# EAGLE library part XR-16C450P (library exar)
UART
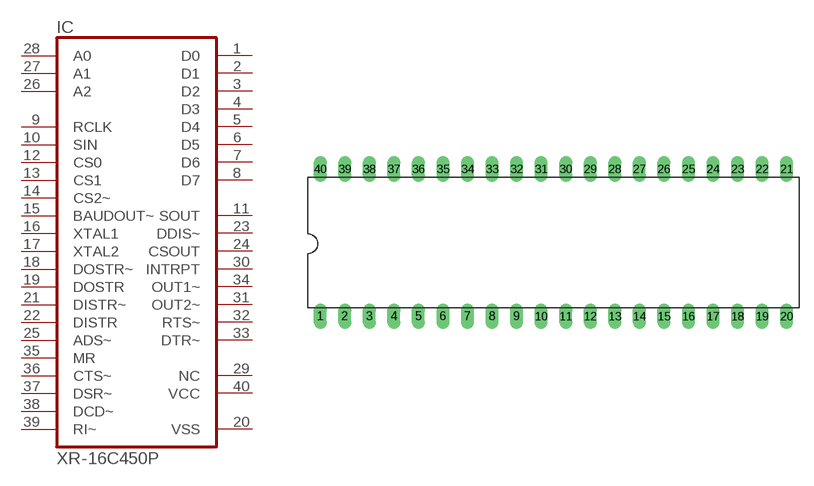
[diagram p70: symbol with the pads of DIL40; footprint DIL40]

Designator prefix IC

## XR-16C450P (MPN: ST16C450CP40; OC_FARNELL: 1209618; OC_NEWARK: 24R1445)  [DIL40]
1  D0
2  D1
3  D2
4  D3
5  D4
6  D5
7  D6
8  D7
9  RCLK  in
10  SIN  in
11  SOUT  out
12  CS0  in
13  CS1  in
14  CS2~  in
15  BAUDOUT~  in
16  XTAL1  in
17  XTAL2  in
18  DOSTR~  in
19  DOSTR  in
20  VSS  pwr
21  DISTR~  in
22  DISTR  in
23  DDIS~  out
24  CSOUT  out
25  ADS~  in
26  A2  in
27  A1  in
28  A0  in
29  NC  nc
30  INTRPT  out
31  OUT2~  out
32  RTS~  out
33  DTR~  out
34  OUT1~  out
35  MR  in
36  CTS~  in
37  DSR~  in
38  DCD~  in
39  RI~  in
40  VCC  pwr

## Footprint DIL40 (pad centres in mm)
Dual In Line Package
drill 0.813 long: 1 -24.13,-7.62; 2 -21.59,-7.62; 3 -19.05,-7.62; 4 -16.51,-7.62; 5 -13.97,-7.62; 6 -11.43,-7.62; 7 -8.89,-7.62; 8 -6.35,-7.62; 9 -3.81,-7.62; 10 -1.27,-7.62; 11 1.27,-7.62; 12 3.81,-7.62; 13 6.35,-7.62; 14 8.89,-7.62; 15 11.43,-7.62; 16 13.97,-7.62; 17 16.51,-7.62; 18 19.05,-7.62; 19 21.59,-7.62; 20 24.13,-7.62; 21 24.13,7.62; 22 21.59,7.62; 23 19.05,7.62; 24 16.51,7.62; 25 13.97,7.62; 26 11.43,7.62; 27 8.89,7.62; 28 6.35,7.62; 29 3.81,7.62; 30 1.27,7.62; 31 -1.27,7.62; 32 -3.81,7.62; 33 -6.35,7.62; 34 -8.89,7.62; 35 -11.43,7.62; 36 -13.97,7.62; 37 -16.51,7.62; 38 -19.05,7.62; 39 -21.59,7.62; 40 -24.13,7.62